# Altium footprint library ABS07-32.768KHZ-9-T.PcbLib: 1 footprints
Each footprint in its own frame and in the unit in brackets; x right, y up, seen from the top. Pads: shape width x height; smd on the part's side, far side on the other; paste and mask are expansions set on the pad; w line width, h text height; cw(c..) or ccw(c..) is an arc to the next point about the centre after c.
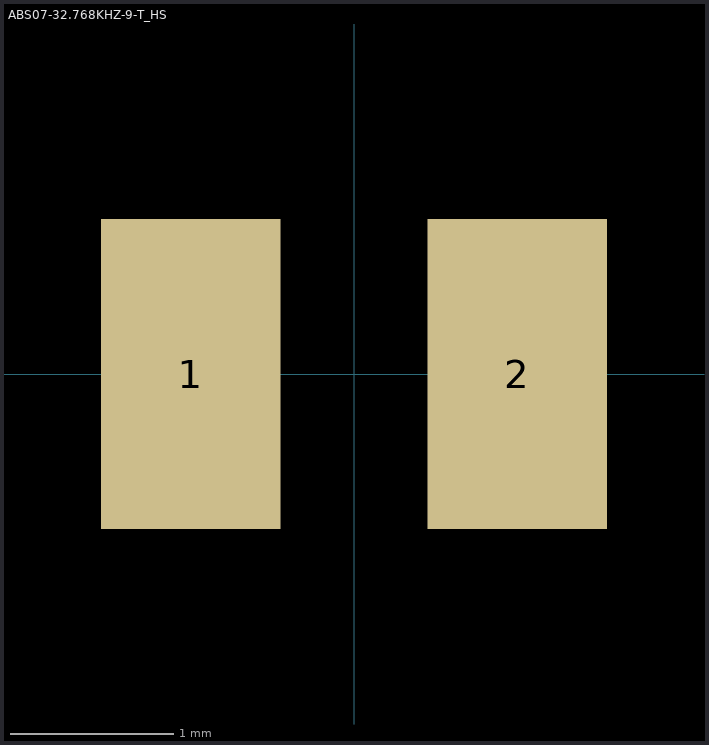
[diagram p0: the footprint, top view; thin cyan lines are the x and y axes]

## ABS07-32.768KHZ-9-T_HS [mm]
pads (2):
  rect 1.1x1.9 smd: 1(-1,0) 2(1,0)
3D body "ABS07.STEP": height 0.89, standoff 0, extent -1.6,-0.749 1.6,0.749